# EAGLE library part BUTTON_GRID_HEADER (library Subsystem Main)
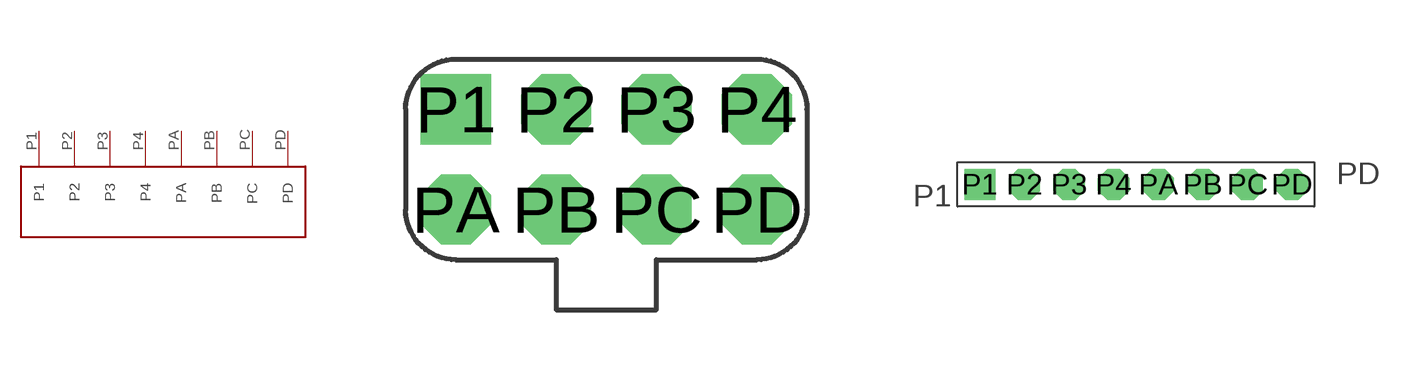
[diagram p1: symbol with the pads of BUTTON_GRID_HEADER_RIBBON_CONNECTOR; footprints BUTTON_GRID_HEADER_RIBBON_CONNECTOR, BUTTON_GRID_HEADER_LINE]

Designator prefix -

## BUTTON_GRID_HEADER  [BUTTON_GRID_HEADER_RIBBON_CONNECTOR]
P1  P1
P2  P2
P3  P3
P4  P4
PA  PA
PB  PB
PC  PC
PD  PD

## BUTTON_GRID_HEADERLINE_CONNECTOR  [BUTTON_GRID_HEADER_LINE]
Pads as for BUTTON_GRID_HEADER_RIBBON_CONNECTOR

## Footprint BUTTON_GRID_HEADER_RIBBON_CONNECTOR (pad centres in mm)
drill 0.9 pad 1.778 square: P1 -3.81,1.27
drill 0.9 pad 1.778 octagon: P2 -1.27,1.27; P3 1.27,1.27; P4 3.81,1.27; PA -3.81,-1.27; PB -1.27,-1.27; PC 1.27,-1.27; PD 3.81,-1.27

## Footprint BUTTON_GRID_HEADER_LINE (pad centres in mm)
drill 0.9 pad 1.778 square: P1 -8.89,0
drill 0.9 pad 1.778 octagon: P2 -6.35,0; P3 -3.81,0; P4 -1.27,0; PA 1.27,0; PB 3.81,0; PC 6.35,0; PD 8.89,0